# Altium footprint library 主控制.PcbLib: 139 footprints (part 6 of 9)
Each footprint in its own frame and in the unit in brackets; x right, y up, seen from the top. Pads: shape width x height; smd on the part's side, far side on the other; paste and mask are expansions set on the pad; w line width, h text height; cw(c..) or ccw(c..) is an arc to the next point about the centre after c.
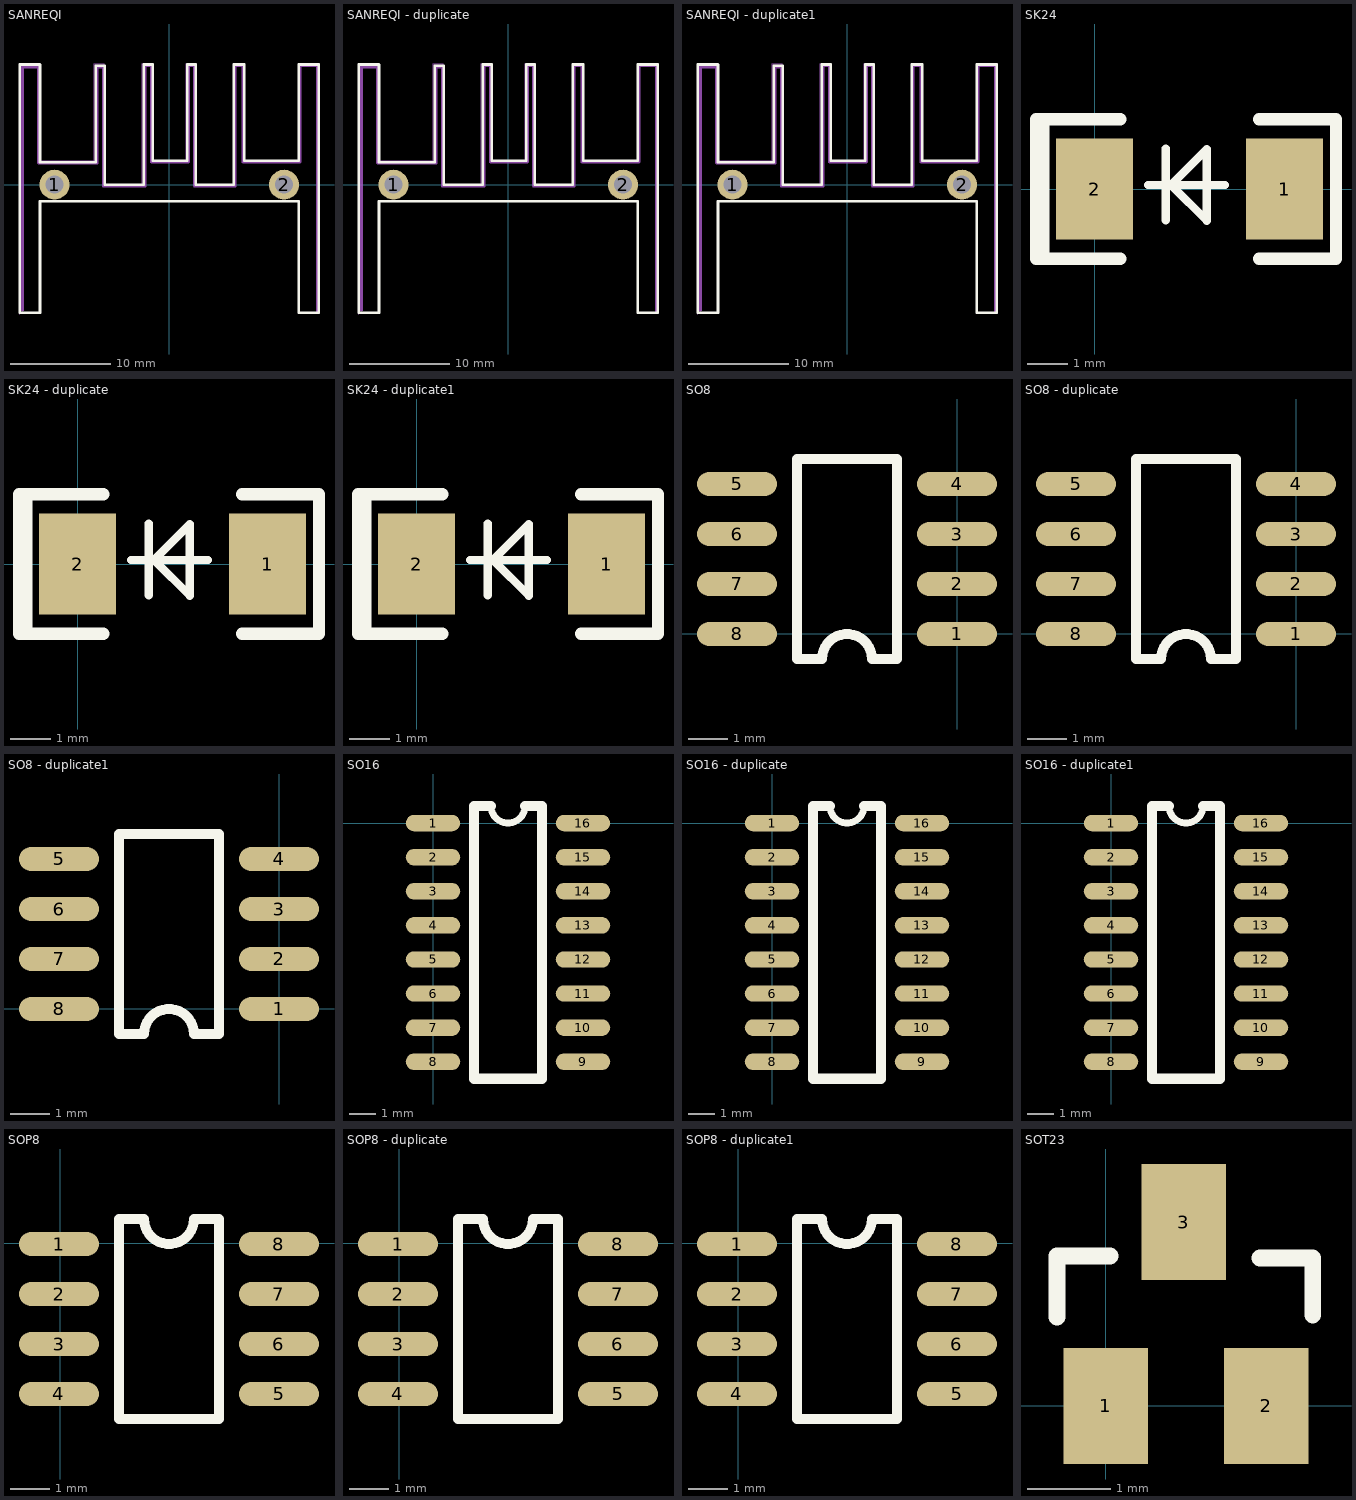
[diagram p5: the footprints below, top view; thin cyan lines are the x and y axes]

## SANREQI [mm]
pads (2):
  round 3 hole 1.8 paste+0 mask+0.05: 1(-11.5,0) 2(11.5,0)
Top Overlay:
  lines w0.254: -14.986,-12.846 -14.986,12.046 -12.954,12.046 -12.954,2.267 -7.366,2.267 -7.366,11.919 -6.477,11.919 -6.477,-0.019 -2.54,-0.019 -2.54,12.046 -1.651,12.046 -1.651,2.394 1.778,2.394 1.778,12.046 2.667,12.046 2.667,-0.019 6.477,-0.019 6.477,12.046 7.493,12.046 7.493,2.394 12.954,2.394 12.954,12.046 14.986,12.046 14.986,-12.846 12.954,-12.846 12.954,-1.67 -12.954,-1.67 -12.954,-12.846 -14.986,-12.846
Mechanical 6:
  drawing of 1 lines, arcs and shapes, not listed
Mechanical 15:
  region: -14.94,-12.9 -14.94,-12.875 -14.975,-12.84 -15.025,-12.84 -15.06,-12.875 -15.06,-12.9 -15.06,-12.925 -15.025,-12.96 -14.975,-12.96 -14.94,-12.925
  region: -10.638,0.024 -10.638,0.141 -10.698,0.367 -10.815,0.57 -10.981,0.735 -11.184,0.852 -11.41,0.913 -11.644,0.913 -11.87,0.852 -12.073,0.735 -12.238,0.57 -12.355,0.367 -12.416,0.141 -12.416,0.024 -12.416,-0.093 -12.355,-0.319 -12.238,-0.522 -12.073,-0.687 -11.87,-0.805 -11.644,-0.865 -11.41,-0.865 -11.184,-0.805 -10.981,-0.687 -10.815,-0.522 -10.698,-0.319 -10.638,-0.093
  region: 12.2,0 12.2,0.092 12.152,0.27 12.06,0.43 11.93,0.56 11.77,0.652 11.592,0.7 11.408,0.7 11.23,0.652 11.07,0.56 10.94,0.43 10.848,0.27 10.8,0.092 10.8,0 10.8,-0.092 10.848,-0.27 10.94,-0.43 11.07,-0.56 11.23,-0.652 11.408,-0.7 11.592,-0.7 11.77,-0.652 11.93,-0.56 12.06,-0.43 12.152,-0.27 12.2,-0.092
  lines w0.051: -15,-12.9 -13,-12.9 -13,-1.6 13,-1.6 13,-12.9 15,-12.9 15,12.1 13,12.1 13,2.4 7.5,2.4 7.5,12.1 6.5,12.1 6.5,0 2.7,0 2.7,12.1 1.7,12.1 1.7,2.505 1.595,2.4 -1.7,2.4 -1.7,12.1 -2.7,12.1 -2.7,0 -6.5,0 -6.5,12.1 -7.5,12.1 -7.5,2.4 -13,2.4 -13,12.1 -15,12.1 -15,-12.9

## SANREQI - duplicate [mm]
pads (2):
  round 3 hole 1.8 paste+0 mask+0.05: 1(-11.5,0) 2(11.5,0)
Top Overlay:
  lines w0.254: -14.986,-12.846 -14.986,12.046 -12.954,12.046 -12.954,2.267 -7.366,2.267 -7.366,11.919 -6.477,11.919 -6.477,-0.019 -2.54,-0.019 -2.54,12.046 -1.651,12.046 -1.651,2.394 1.778,2.394 1.778,12.046 2.667,12.046 2.667,-0.019 6.477,-0.019 6.477,12.046 7.493,12.046 7.493,2.394 12.954,2.394 12.954,12.046 14.986,12.046 14.986,-12.846 12.954,-12.846 12.954,-1.67 -12.954,-1.67 -12.954,-12.846 -14.986,-12.846
Mechanical 6:
  drawing of 1 lines, arcs and shapes, not listed
Mechanical 15:
  region: -14.94,-12.9 -14.94,-12.875 -14.975,-12.84 -15.025,-12.84 -15.06,-12.875 -15.06,-12.9 -15.06,-12.925 -15.025,-12.96 -14.975,-12.96 -14.94,-12.925
  region: -10.638,0.024 -10.638,0.141 -10.698,0.367 -10.815,0.57 -10.981,0.735 -11.184,0.852 -11.41,0.913 -11.644,0.913 -11.87,0.852 -12.073,0.735 -12.238,0.57 -12.355,0.367 -12.416,0.141 -12.416,0.024 -12.416,-0.093 -12.355,-0.319 -12.238,-0.522 -12.073,-0.687 -11.87,-0.805 -11.644,-0.865 -11.41,-0.865 -11.184,-0.805 -10.981,-0.687 -10.815,-0.522 -10.698,-0.319 -10.638,-0.093
  region: 12.2,0 12.2,0.092 12.152,0.27 12.06,0.43 11.93,0.56 11.77,0.652 11.592,0.7 11.408,0.7 11.23,0.652 11.07,0.56 10.94,0.43 10.848,0.27 10.8,0.092 10.8,0 10.8,-0.092 10.848,-0.27 10.94,-0.43 11.07,-0.56 11.23,-0.652 11.408,-0.7 11.592,-0.7 11.77,-0.652 11.93,-0.56 12.06,-0.43 12.152,-0.27 12.2,-0.092
  lines w0.051: -15,-12.9 -13,-12.9 -13,-1.6 13,-1.6 13,-12.9 15,-12.9 15,12.1 13,12.1 13,2.4 7.5,2.4 7.5,12.1 6.5,12.1 6.5,0 2.7,0 2.7,12.1 1.7,12.1 1.7,2.505 1.595,2.4 -1.7,2.4 -1.7,12.1 -2.7,12.1 -2.7,0 -6.5,0 -6.5,12.1 -7.5,12.1 -7.5,2.4 -13,2.4 -13,12.1 -15,12.1 -15,-12.9

## SANREQI - duplicate1 [mm]
pads (2):
  round 3 hole 1.8 paste+0 mask+0.05: 1(-11.5,0) 2(11.5,0)
Top Overlay:
  lines w0.254: -14.986,-12.846 -14.986,12.046 -12.954,12.046 -12.954,2.267 -7.366,2.267 -7.366,11.919 -6.477,11.919 -6.477,-0.019 -2.54,-0.019 -2.54,12.046 -1.651,12.046 -1.651,2.394 1.778,2.394 1.778,12.046 2.667,12.046 2.667,-0.019 6.477,-0.019 6.477,12.046 7.493,12.046 7.493,2.394 12.954,2.394 12.954,12.046 14.986,12.046 14.986,-12.846 12.954,-12.846 12.954,-1.67 -12.954,-1.67 -12.954,-12.846 -14.986,-12.846
Mechanical 6:
  drawing of 1 lines, arcs and shapes, not listed
Mechanical 15:
  region: -14.94,-12.9 -14.94,-12.875 -14.975,-12.84 -15.025,-12.84 -15.06,-12.875 -15.06,-12.9 -15.06,-12.925 -15.025,-12.96 -14.975,-12.96 -14.94,-12.925
  region: -10.638,0.024 -10.638,0.141 -10.698,0.367 -10.815,0.57 -10.981,0.735 -11.184,0.852 -11.41,0.913 -11.644,0.913 -11.87,0.852 -12.073,0.735 -12.238,0.57 -12.355,0.367 -12.416,0.141 -12.416,0.024 -12.416,-0.093 -12.355,-0.319 -12.238,-0.522 -12.073,-0.687 -11.87,-0.805 -11.644,-0.865 -11.41,-0.865 -11.184,-0.805 -10.981,-0.687 -10.815,-0.522 -10.698,-0.319 -10.638,-0.093
  region: 12.2,0 12.2,0.092 12.152,0.27 12.06,0.43 11.93,0.56 11.77,0.652 11.592,0.7 11.408,0.7 11.23,0.652 11.07,0.56 10.94,0.43 10.848,0.27 10.8,0.092 10.8,0 10.8,-0.092 10.848,-0.27 10.94,-0.43 11.07,-0.56 11.23,-0.652 11.408,-0.7 11.592,-0.7 11.77,-0.652 11.93,-0.56 12.06,-0.43 12.152,-0.27 12.2,-0.092
  lines w0.051: -15,-12.9 -13,-12.9 -13,-1.6 13,-1.6 13,-12.9 15,-12.9 15,12.1 13,12.1 13,2.4 7.5,2.4 7.5,12.1 6.5,12.1 6.5,0 2.7,0 2.7,12.1 1.7,12.1 1.7,2.505 1.595,2.4 -1.7,2.4 -1.7,12.1 -2.7,12.1 -2.7,0 -6.5,0 -6.5,12.1 -7.5,12.1 -7.5,2.4 -13,2.4 -13,12.1 -15,12.1 -15,-12.9

## SK24 [mm]
pads (2):
  rect 1.9x2.5 smd: 1(4.699,0) 2(0,0)
Top Overlay:
  lines w0.2: 1.911,0.078 1.911,0.14 1.925,0.14
  lines w0.203: 1.321,0.102 3.226,0.102 ; 1.758,-0.774 1.758,1 ; 1.911,0.078 2.774,-0.785 2.774,0.989 1.925,0.14
  lines w0.305: 0.635,-1.727 -1.27,-1.727 ; 0.635,1.727 -1.27,1.727 ; 4.064,-1.727 5.969,-1.727 5.969,1.727 4.064,1.727 ; -1.27,-1.727 -1.27,1.727 ; -1.27,-1.727 -1.448,-1.727 -1.448,1.727 -1.27,1.727

## SK24 - duplicate [mm]
pads (2):
  rect 1.9x2.5 smd: 1(4.699,0) 2(0,0)
Top Overlay:
  lines w0.2: 1.911,0.078 1.911,0.14 1.925,0.14
  lines w0.203: 1.321,0.102 3.226,0.102 ; 1.758,-0.774 1.758,1 ; 1.911,0.078 2.774,-0.785 2.774,0.989 1.925,0.14
  lines w0.305: 0.635,-1.727 -1.27,-1.727 ; 0.635,1.727 -1.27,1.727 ; 4.064,-1.727 5.969,-1.727 5.969,1.727 4.064,1.727 ; -1.27,-1.727 -1.27,1.727 ; -1.27,-1.727 -1.448,-1.727 -1.448,1.727 -1.27,1.727

## SK24 - duplicate1 [mm]
pads (2):
  rect 1.9x2.5 smd: 1(4.699,0) 2(0,0)
Top Overlay:
  lines w0.2: 1.911,0.078 1.911,0.14 1.925,0.14
  lines w0.203: 1.321,0.102 3.226,0.102 ; 1.758,-0.774 1.758,1 ; 1.911,0.078 2.774,-0.785 2.774,0.989 1.925,0.14
  lines w0.305: 0.635,-1.727 -1.27,-1.727 ; 0.635,1.727 -1.27,1.727 ; 4.064,-1.727 5.969,-1.727 5.969,1.727 4.064,1.727 ; -1.27,-1.727 -1.27,1.727 ; -1.27,-1.727 -1.448,-1.727 -1.448,1.727 -1.27,1.727

## SO8 [mil]
pads (8):
  oval 80x24 smd: 1(0,0) 2(0,50) 3(0,100) 4(0,150) 5(-220,150) 6(-220,100) 7(-220,50) 8(-220,0)
Top Overlay:
  lines w10: -160,-25 -135,-25 cw(c-110,-25) -85,-25 -60,-25 -60,175 -160,175 -160,-25

## SO8 - duplicate [mil]
pads (8):
  oval 80x24 smd: 1(0,0) 2(0,50) 3(0,100) 4(0,150) 5(-220,150) 6(-220,100) 7(-220,50) 8(-220,0)
Top Overlay:
  lines w10: -160,-25 -160,175 -60,175 -60,-25 -85,-25 ccw(c-110,-25) -135,-25 -160,-25

## SO8 - duplicate1 [mil]
pads (8):
  oval 80x24 smd: 1(0,0) 2(0,50) 3(0,100) 4(0,150) 5(-220,150) 6(-220,100) 7(-220,50) 8(-220,0)
Top Overlay:
  lines w10: -160,-25 -160,175 -60,175 -60,-25 -85,-25 ccw(c-110,-25) -135,-25 -160,-25

## SO16 [mil]
pads (16):
  oval 80x24 smd: 1(0,0) 2(0,-50) 3(0,-100) 4(0,-150) 5(0,-200) 6(0,-250) 7(0,-300) 8(0,-350) 9(220,-350) 10(220,-300) 11(220,-250) 12(220,-200) 13(220,-150) 14(220,-100) 15(220,-50) 16(220,0)
Top Overlay:
  lines w10: 85,25 ccw(c110,25) 135,25
  lines w15: 85,25 60,25 60,-375 160,-375 160,25 135,25

## SO16 - duplicate [mil]
pads (16):
  oval 80x24 smd: 1(0,0) 2(0,-50) 3(0,-100) 4(0,-150) 5(0,-200) 6(0,-250) 7(0,-300) 8(0,-350) 9(220,-350) 10(220,-300) 11(220,-250) 12(220,-200) 13(220,-150) 14(220,-100) 15(220,-50) 16(220,0)
Top Overlay:
  lines w10: 85,25 ccw(c110,25) 135,25
  lines w15: 85,25 60,25 60,-375 160,-375 160,25 135,25

## SO16 - duplicate1 [mil]
pads (16):
  oval 80x24 smd: 1(0,0) 2(0,-50) 3(0,-100) 4(0,-150) 5(0,-200) 6(0,-250) 7(0,-300) 8(0,-350) 9(220,-350) 10(220,-300) 11(220,-250) 12(220,-200) 13(220,-150) 14(220,-100) 15(220,-50) 16(220,0)
Top Overlay:
  lines w10: 85,25 ccw(c110,25) 135,25
  lines w15: 85,25 60,25 60,-375 160,-375 160,25 135,25

## SOP8 [mil] "封装库来自淘宝卖家 ID：黄晶宝石"
pads (8):
  oval 80x24 smd: 1(-1,-1) 2(-1,-51) 3(-1,-101) 4(-1,-151) 5(219,-151) 6(219,-101) 7(219,-51) 8(219,-1)
Top Overlay:
  lines w10: 59,-176 59,24 84,24 ccw(c109,24) 134,24 159,24 159,-176 59,-176
3D body "SOP8.STEP": height 62.99, standoff 0, extent -3.93,-173.82 233.94,23.82

## SOP8 - duplicate [mil]
pads (8):
  oval 80x24 smd: 1(-1,-1) 2(-1,-51) 3(-1,-101) 4(-1,-151) 5(219,-151) 6(219,-101) 7(219,-51) 8(219,-1)
Top Overlay:
  lines w10: 59,-176 159,-176 159,24 134,24 cw(c109,24) 84,24 59,24 59,-176
3D body "SOP8.STEP": height 62.99, standoff 0, extent -3.93,-173.82 233.94,23.82

## SOP8 - duplicate1 [mil]
pads (8):
  oval 80x24 smd: 1(-1,-1) 2(-1,-51) 3(-1,-101) 4(-1,-151) 5(219,-151) 6(219,-101) 7(219,-51) 8(219,-1)
Top Overlay:
  lines w10: 59,-176 159,-176 159,24 134,24 cw(c109,24) 84,24 59,24 59,-176
3D body "SOP8.STEP": height 62.99, standoff 0, extent -3.93,-173.82 233.94,23.82

## SOT23 [mil]
pads (3):
  rect 40x55 smd: 1(0,0) 2(76,0) 3(37,87)
Top Overlay:
  lines w8: -23,42 -23,71 2,71 ; 73,70 97,70 ; 98,43 98,70